# EAGLE library part 651005136421 (library WE_Stecker)
WR-COM Vertical 5 Contacts Mini USB Type B, 5 pins=>Code : Con_I-O_COM_MiniUSB_651005136421 <http://katalog.we-online.de/media/images/eican/Con_I-O_COM_MiniUSB_651005136421_pf2.jpg> Details see: http://katalog.we-online.de/en/em/COM_MINI_TYPE_B_VERTICAL/651005136421 Created 2014-07-09, Karrer Zheng 2014 (C) Würth Elektronik
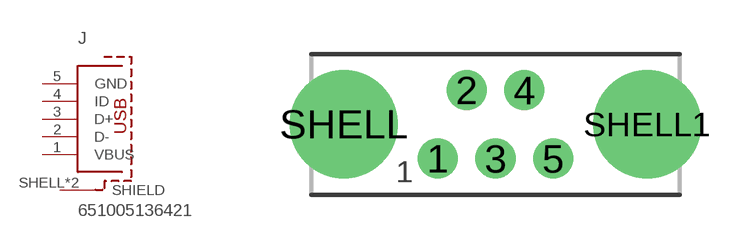
[diagram p67: symbol with the pads of 651005136421; footprint 651005136421]

Designator prefix J

## 651005136421  [651005136421]
1  VBUS  pas
2  D-  pas
3  D+  pas
4  ID  pas
5  GND  pas
SHELL  SHIELD  pas
SHELL1  SHIELD  pas

## Footprint 651005136421 (pad centres in mm)
WR-COM Vertical 5 Contacts Mini USB Type B, 5 pins
drill 0.6: 1 -1.6,-0.95; 2 -0.8,0.95; 3 0,-0.95; 4 0.8,0.95; 5 1.6,-0.95
drill 2: SHELL -4.2,0; SHELL1 4.2,0